# EAGLE library part RN-131G (library untitled)
Roving Netowrks WiFLy GSX Module
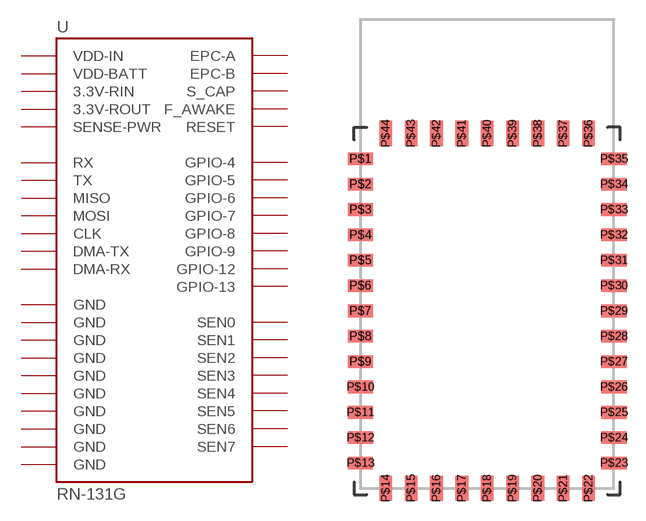
[diagram p216: symbol with the pads of RN-131G; footprint RN-131G]

Designator prefix -

## RN-131G  [RN-131G]
P$1  SEN6
P$2  SEN4
P$3  SEN5
P$4  SEN7
P$5  RESET
P$6  EPC-A
P$7  EPC-B
P$8  S_CAP
P$9  F_AWAKE
P$10  GPIO-13
P$11  GPIO-12
P$12  RX
P$13  TX
P$14  MOSI
P$15  CLK
P$16  MISO
P$17  3.3V-ROUT
P$18  3.3V-RIN
P$19  GND
P$20  VDD-BATT
P$21  VDD-IN
P$22  DMA-TX
P$23  DMA-RX
P$24  GPIO-9
P$25  GPIO-8
P$26  GPIO-7
P$27  GPIO-6
P$28  GPIO-5
P$29  GPIO-4
P$30  SEN1
P$31  SEN2
P$32  SEN3
P$33  SENSE-PWR
P$34  SEN0
P$36  GND
P$37  GND
P$38  GND
P$39  GND
P$40  GND
P$41  GND
P$42  GND
P$43  GND
P$44  GND

## Footprint RN-131G (pad centres in mm)
smd 2 x 1: P$1 -10,11; P$2 -10,9; P$3 -10,7; P$4 -10,5; P$5 -10,3; P$6 -10,1; P$7 -10,-1; P$8 -10,-3; P$9 -10,-5; P$10 -10,-7; P$11 -10,-9; P$12 -10,-11; P$13 -10,-13; P$23 10,-13; P$24 10,-11; P$25 10,-9; P$26 10,-7; P$27 10,-5; P$28 10,-3; P$29 10,-1; P$30 10,1; P$31 10,3; P$32 10,5; P$33 10,7; P$34 10,9; P$35 10,11
smd 1 x 2: P$14 -8,-15; P$15 -6,-15; P$16 -4,-15; P$17 -2,-15; P$18 0,-15; P$19 2,-15; P$20 4,-15; P$21 6,-15; P$22 8,-15; P$36 8,13; P$37 6,13; P$38 4,13; P$39 2,13; P$40 0,13; P$41 -2,13; P$42 -4,13; P$43 -6,13; P$44 -8,13